# Altium footprint library E-SWITCH_EG2208A.PcbLib: 1 footprints
Each footprint in its own frame and in the unit in brackets; x right, y up, seen from the top. Pads: shape width x height; smd on the part's side, far side on the other; paste and mask are expansions set on the pad; w line width, h text height; cw(c..) or ccw(c..) is an arc to the next point about the centre after c.
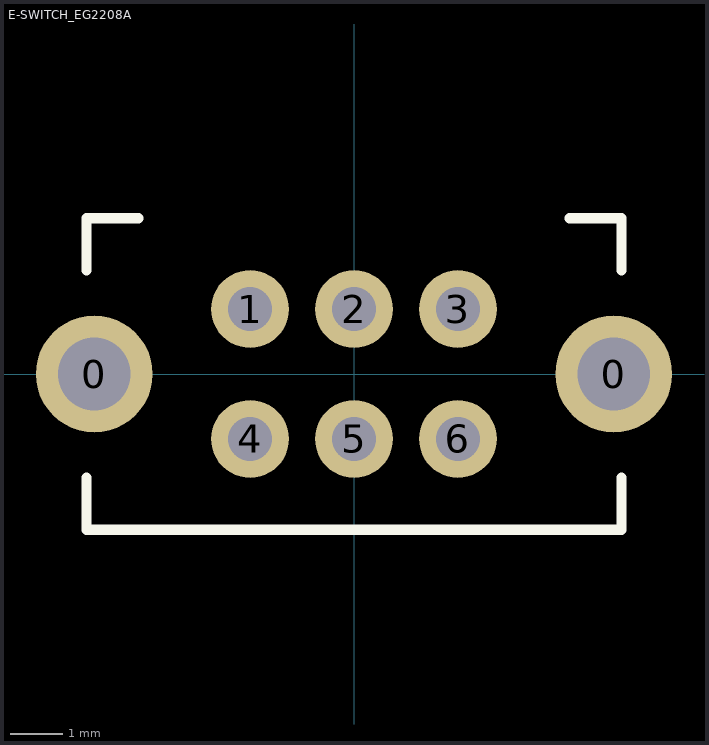
[diagram p0: the footprint, top view; thin cyan lines are the x and y axes]

## E-SWITCH_EG2208A [mm] "E-Switch DPDT Slide Switch"
pads (8):
  round 2.25 hole 1.4: 0(-5,0) 0(5,0)
  round 1.5 hole 0.85: 1(-2,1.25) 2(0,1.25) 3(2,1.25) 4(-2,-1.25) 5(0,-1.25) 6(2,-1.25)
Top Overlay:
  lines w0.2: -5.15,-2 -5.15,-3 5.15,-3 5.15,-2 ; -5.15,2 -5.15,3 -4.15,3 ; 4.15,3 5.15,3 5.15,2
3D body "EG2208A.stp": height 4.99, standoff -3.01, extent -5.157,-9 5.143,3